# Altium schematic symbol library QUTMS_LEDLibrary.SchLib: 8 symbols
Pins are listed as number, name and electrical type; pins without a type are passive.

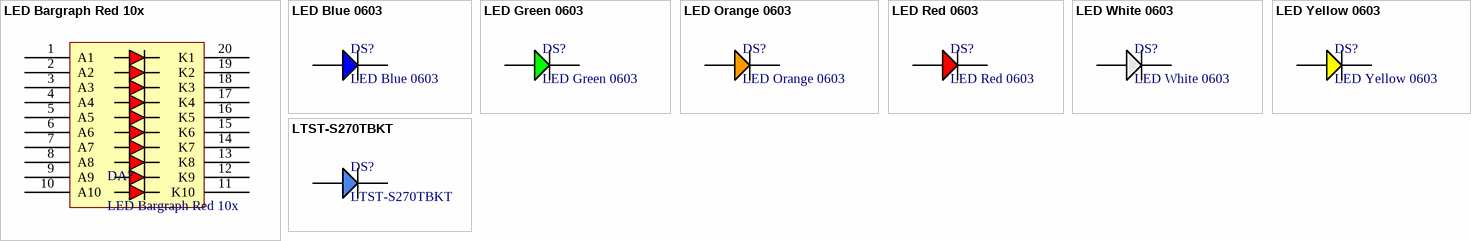
[diagram p0: symbols LED Bargraph Red 10x to LTST-S270TBKT]

## LED Bargraph Red 10x
designator DA?
footprint LED DIP RED 10
pins: 1 A1, 2 A2, 3 A3, 4 A4, 5 A5, 6 A6, 7 A7, 8 A8, 9 A9, 10 A10, 11 K10, 12 K9, 13 K8, 14 K7, 15 K6, 16 K5, 17 K4, 18 K3, 19 K2, 20 K1

## LED Blue 0603
designator DS?
footprint LED BLUE 0603
pins: 1 A, 2 C

## LED Green 0603
designator DS?
footprint LED GREEN 0603
pins: 1 A, 2 C

## LED Orange 0603
designator DS?
footprint LED ORANGE 0603
pins: 1 A, 2 C

## LED Red 0603
designator DS?
footprint LED RED 0603
pins: 1 A, 2 C

## LED White 0603
designator DS?
footprint LED WHITE 0603
pins: 1 A, 2 C

## LED Yellow 0603
designator DS?
footprint LED YELLOW 0603
pins: 1 A, 2 C

## LTST-S270TBKT
designator DS?
Blue 465~475nm 0603 Light Emitting Diodes (LED) RoHS; ComponentLink1Description: Datasheet; ComponentLink1URL: https://datasheet.lcsc.com/szlcsc/1810231514_Lite-On-LTST-S270TBKT_C125115.pdf; ComponentLink2Description: LCSC; ComponentLink2URL: https://lcsc.com/product-detail/Light-Emitting-Diodes-LED_SMD-blue_C125115.html?fbclid=IwAR3FSH6YrHbRzV32U-ay_8z1qxxd0LCRjLvls6Fu0nOegXfEm6YOjINWeaA
footprint LTST-S270TBKT
pins: A, K